# EAGLE library part TD-134-T-AA (library SAMTEC-Txx_By_element14_Batch_1)
CONN RECEPTACLE, 2.54MM, THT VERT, 68WAY
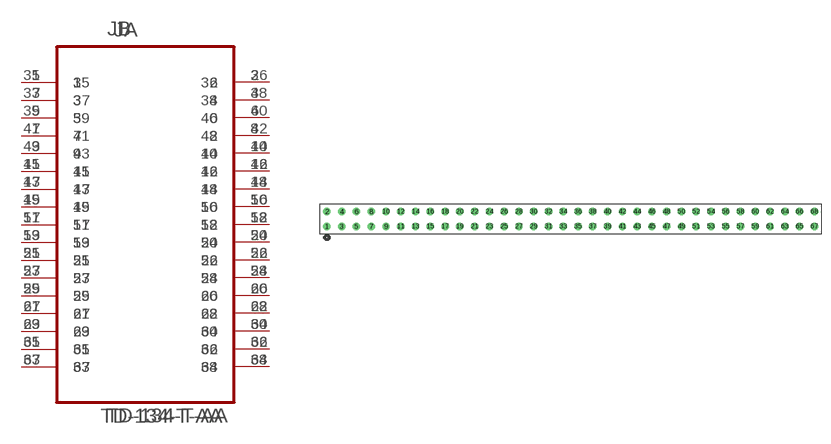
[diagram p115: symbol with the pads of SAMTEC_TD-134-T-AA; footprint SAMTEC_TD-134-T-AA]

Designator prefix J; gates A=TD-134-T-AA_A B=TD-134-T-AA_B

## TD-134-T-AA (MPN: TD-134-T-AA; OC_FARNELL: 2020286; OC_NEWARK: -; PACKAGE: RECEPTACLE, 2.54MM, THT VERT, 68WAY; SUPPLIER: SAMTEC)  [SAMTEC_TD-134-T-AA]
1  A:1  pas
2  A:2  pas
3  A:3  pas
4  A:4  pas
5  A:5  pas
6  A:6  pas
7  A:7  pas
8  A:8  pas
9  A:9  pas
10  A:10  pas
11  A:11  pas
12  A:12  pas
13  A:13  pas
14  A:14  pas
15  A:15  pas
16  A:16  pas
17  A:17  pas
18  A:18  pas
19  A:19  pas
20  A:20  pas
21  A:21  pas
22  A:22  pas
23  A:23  pas
24  A:24  pas
25  A:25  pas
26  A:26  pas
27  A:27  pas
28  A:28  pas
29  A:29  pas
30  A:30  pas
31  A:31  pas
32  A:32  pas
33  A:33  pas
34  A:34  pas
35  B:35  pas
36  B:36  pas
37  B:37  pas
38  B:38  pas
39  B:39  pas
40  B:40  pas
41  B:41  pas
42  B:42  pas
43  B:43  pas
44  B:44  pas
45  B:45  pas
46  B:46  pas
47  B:47  pas
48  B:48  pas
49  B:49  pas
50  B:50  pas
51  B:51  pas
52  B:52  pas
53  B:53  pas
54  B:54  pas
55  B:55  pas
56  B:56  pas
57  B:57  pas
58  B:58  pas
59  B:59  pas
60  B:60  pas
61  B:61  pas
62  B:62  pas
63  B:63  pas
64  B:64  pas
65  B:65  pas
66  B:66  pas
67  B:67  pas
68  B:68  pas

## Footprint SAMTEC_TD-134-T-AA (pad centres in mm)
drill 0.762: 1 -83.82,-2.54; 2 -83.82,0; 3 -81.28,-2.54; 4 -81.28,0; 5 -78.74,-2.54; 6 -78.74,0; 7 -76.2,-2.54; 8 -76.2,0; 9 -73.66,-2.54; 10 -73.66,0; 11 -71.12,-2.54; 12 -71.12,0; 13 -68.58,-2.54; 14 -68.58,0; 15 -66.04,-2.54; 16 -66.04,0; 17 -63.5,-2.54; 18 -63.5,0; 19 -60.96,-2.54; 20 -60.96,0; 21 -58.42,-2.54; 22 -58.42,0; 23 -55.88,-2.54; 24 -55.88,0; 25 -53.34,-2.54; 26 -53.34,0; 27 -50.8,-2.54; 28 -50.8,0; 29 -48.26,-2.54; 30 -48.26,0; 31 -45.72,-2.54; 32 -45.72,0; 33 -43.18,-2.54; 34 -43.18,0; 35 -40.64,-2.54; 36 -40.64,0; 37 -38.1,-2.54; 38 -38.1,0; 39 -35.56,-2.54; 40 -35.56,0; 41 -33.02,-2.54; 42 -33.02,0; 43 -30.48,-2.54; 44 -30.48,0; 45 -27.94,-2.54; 46 -27.94,0; 47 -25.4,-2.54; 48 -25.4,0; 49 -22.86,-2.54; 50 -22.86,0; 51 -20.32,-2.54; 52 -20.32,0; 53 -17.78,-2.54; 54 -17.78,0; 55 -15.24,-2.54; 56 -15.24,0; 57 -12.7,-2.54; 58 -12.7,0; 59 -10.16,-2.54; 60 -10.16,0; 61 -7.62,-2.54; 62 -7.62,0; 63 -5.08,-2.54; 64 -5.08,0; 65 -2.54,-2.54; 66 -2.54,0; 67 0,-2.54; 68 0,0